# Altium footprint library SparkFun-IC-Special-Function.PCBLIB: 35 footprints (part 2 of 3)
Each footprint in its own frame and in the unit in brackets; x right, y up, seen from the top. Pads: shape width x height; smd on the part's side, far side on the other; paste and mask are expansions set on the pad; w line width, h text height; cw(c..) or ccw(c..) is an arc to the next point about the centre after c.
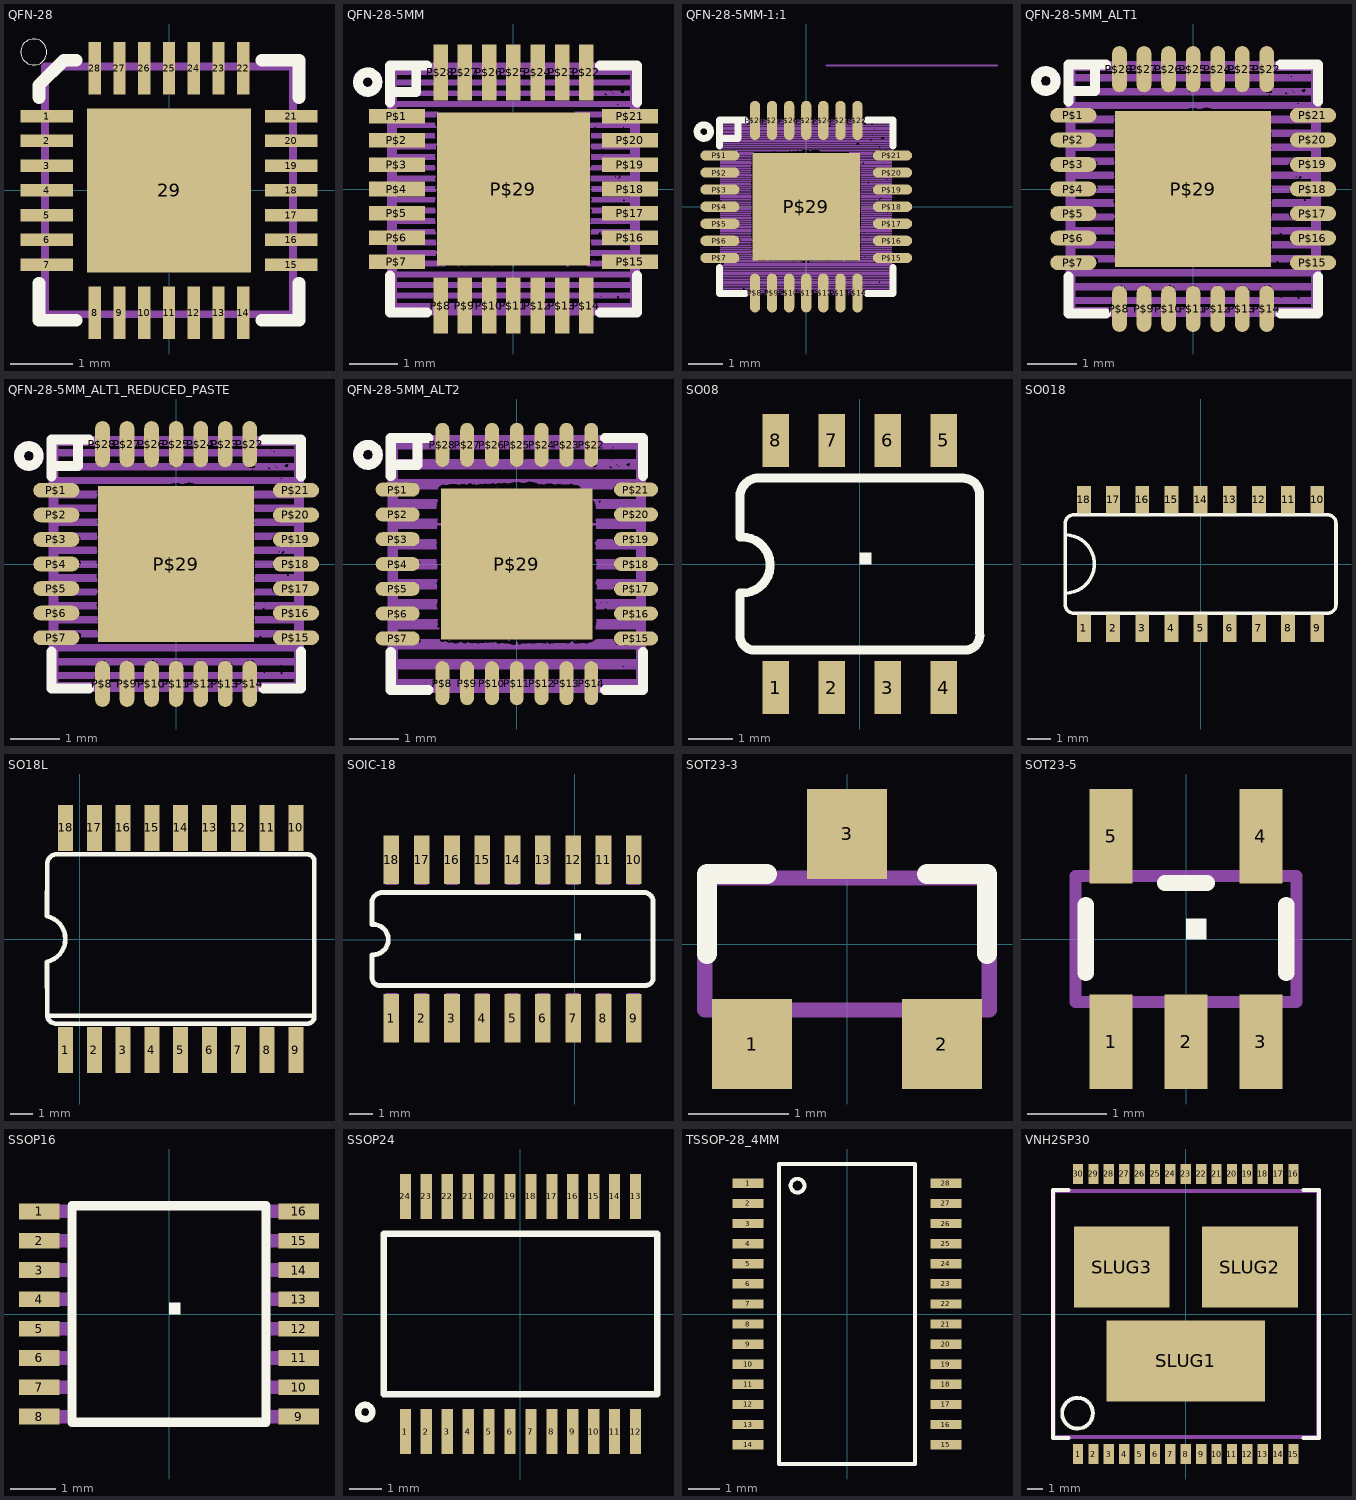
[diagram p1: the footprints below, top view; thin cyan lines are the x and y axes]

## QFN-28 [mil]
pads (29):
  rect 33.46x7.87 smd: 1(-77.76,47.24) 2(-77.76,31.5) 3(-77.76,15.75) 4(-77.76,0) 5(-77.76,-15.75) 6(-77.76,-31.5) 7(-77.76,-47.24) 15(77.76,-47.24) 16(77.76,-31.5) 17(77.76,-15.75) 18(77.76,0) 19(77.76,15.75) 20(77.76,31.5) 21(77.76,47.24)
  rect 7.87x33.46 smd: 8(-47.24,-77.76) 9(-31.5,-77.76) 10(-15.75,-77.76) 11(0,-77.76) 12(15.75,-77.76) 13(31.5,-77.76) 14(47.24,-77.76) 22(47.24,77.76) 23(31.5,77.76) 24(15.75,77.76) 25(0,77.76) 26(-15.75,77.76) 27(-31.5,77.76) 28(-47.24,77.76)
  rect 104.33x104.33 smd: 29(0,0)
Top Overlay:
  circle w0: c-86,88 r8.25
  lines w8: -82.68,-59.06 -82.68,-82.68 -59.06,-82.68 ; -82.68,59.06 -82.68,66.93 -66.93,82.68 -59.06,82.68 ; 59.06,-82.68 82.68,-82.68 82.68,-59.06 ; 59.06,82.68 82.68,82.68 82.68,59.06
Top Paste:
  rectangle: -39.12,-39.12 -13.04,-13.04
  region: 39.12,39.12 13.04,39.12 13.04,13.04 39.12,13.04
  rectangle: -39.12,13.04 -13.04,39.12
  region: 39.12,-13.04 13.04,-13.04 13.04,-39.12 39.12,-39.12
  rectangle: -78.74,43.31 -61.02,51.18
  rectangle: -78.74,27.56 -61.02,35.43
  rectangle: -78.74,11.81 -61.02,19.69
  rectangle: -78.74,-3.94 -61.02,3.94
  rectangle: -78.74,-19.69 -61.02,-11.81
  rectangle: -78.74,-35.43 -61.02,-27.56
  rectangle: -78.74,-51.18 -61.02,-43.31
  region: -43.31,-78.73 -43.31,-61.02 -51.19,-61.02 -51.19,-78.73
  region: -27.56,-78.73 -27.56,-61.02 -35.44,-61.02 -35.44,-78.73
  region: -11.81,-78.74 -11.81,-61.02 -19.69,-61.02 -19.69,-78.74
  region: 3.94,-78.74 3.94,-61.02 -3.94,-61.02 -3.94,-78.74
  region: 19.69,-78.74 19.69,-61.02 11.81,-61.02 11.81,-78.74
  region: 35.44,-78.73 35.44,-61.02 27.56,-61.02 27.56,-78.73
  region: 51.19,-78.73 51.19,-61.02 43.31,-61.02 43.31,-78.73
  region: 78.74,-43.31 61.02,-43.31 61.02,-51.18 78.74,-51.18
  region: 78.74,-27.56 61.02,-27.56 61.02,-35.43 78.74,-35.43
  region: 78.74,-11.81 61.02,-11.81 61.02,-19.69 78.74,-19.69
  region: 78.74,3.94 61.02,3.94 61.02,-3.94 78.74,-3.94
  region: 78.74,19.69 61.02,19.69 61.02,11.81 78.74,11.81
  region: 78.74,35.43 61.02,35.43 61.02,27.56 78.74,27.56
  region: 78.74,51.18 61.02,51.18 61.02,43.31 78.74,43.31
  region: 43.31,78.73 43.31,61.02 51.19,61.02 51.19,78.73
  region: 27.56,78.73 27.56,61.02 35.44,61.02 35.44,78.73
  region: 11.81,78.74 11.81,61.02 19.69,61.02 19.69,78.74
  region: -3.94,78.74 -3.94,61.02 3.94,61.02 3.94,78.74
  region: -19.69,78.74 -19.69,61.02 -11.81,61.02 -11.81,78.74
  region: -35.44,78.73 -35.44,61.02 -27.56,61.02 -27.56,78.73
  region: -51.19,78.73 -51.19,61.02 -43.31,61.02 -43.31,78.73
Mechanical 16:
  rectangle: -2.99,-78.74 2.99,-62.99
  rectangle: 12.76,-78.74 18.74,-62.99
  rectangle: 28.5,-78.74 34.49,-62.99
  rectangle: 44.25,-78.74 50.24,-62.99
  rectangle: -18.74,-78.74 -12.76,-62.99
  rectangle: -34.49,-78.74 -28.5,-62.99
  rectangle: -50.24,-78.74 -44.25,-62.99
  region: 78.74,-50.24 78.74,-44.25 62.99,-44.25 62.99,-50.24
  region: 78.74,-34.49 78.74,-28.5 62.99,-28.5 62.99,-34.49
  region: 78.74,-18.74 78.74,-12.75 62.99,-12.75 62.99,-18.74
  region: 78.74,-2.99 78.74,2.99 63,2.99 63,-2.99
  region: 78.74,12.75 78.74,18.74 62.99,18.74 62.99,12.75
  region: 78.74,28.5 78.74,34.49 62.99,34.49 62.99,28.5
  region: 78.74,44.25 78.74,50.24 62.99,50.24 62.99,44.25
  region: 50.24,78.74 44.25,78.74 44.25,62.99 50.24,62.99
  region: 34.49,78.74 28.5,78.74 28.5,62.99 34.49,62.99
  region: 18.74,78.74 12.76,78.74 12.76,62.99 18.74,62.99
  region: 2.99,78.74 -2.99,78.74 -2.99,62.99 2.99,62.99
  region: -12.76,78.74 -18.74,78.74 -18.74,62.99 -12.76,62.99
  region: -28.5,78.74 -34.49,78.74 -34.49,62.99 -28.5,62.99
  region: -44.25,78.74 -50.24,78.74 -50.24,62.99 -44.25,62.99
  region: -78.74,50.24 -78.74,44.25 -62.99,44.25 -62.99,50.24
  region: -78.74,34.49 -78.74,28.5 -62.99,28.5 -62.99,34.49
  region: -78.74,18.74 -78.74,12.75 -62.99,12.75 -62.99,18.74
  region: -78.74,2.99 -78.74,-2.99 -63,-2.99 -63,2.99
  region: -78.74,-12.75 -78.74,-18.74 -62.99,-18.74 -62.99,-12.75
  region: -78.74,-28.5 -78.74,-34.49 -62.99,-34.49 -62.99,-28.5
  region: -78.74,-44.25 -78.74,-50.24 -62.99,-50.24 -62.99,-44.25
  lines w5: -78.74,-78.74 -78.74,78.74 78.74,78.74 78.74,-78.74 -78.74,-78.74

## QFN-28-5MM [mm]
pads (29):
  rect 1.15x0.3 smd: P$1(-2.4,1.5) P$2(-2.4,1) P$3(-2.4,0.5) P$4(-2.4,0) P$5(-2.4,-0.5) P$6(-2.4,-1) P$7(-2.4,-1.5) P$15(2.4,-1.5) P$16(2.4,-1) P$17(2.4,-0.5) P$18(2.4,0) P$19(2.4,0.5) P$20(2.4,1) P$21(2.4,1.5)
  rect 0.3x1.15 smd: P$8(-1.5,-2.4) P$9(-1,-2.4) P$10(-0.5,-2.4) P$11(0,-2.4) P$12(0.5,-2.4) P$13(1,-2.4) P$14(1.5,-2.4) P$22(1.5,2.4) P$23(1,2.4) P$24(0.5,2.4) P$25(0,2.4) P$26(-0.5,2.4) P$27(-1,2.4) P$28(-1.5,2.4)
  rect 3.15x3.15 smd: P$29(0,0)
Top Overlay:
  circle w0.203: c-3,2.2 r0.2
  lines w0.203: -2.54,-1.778 -2.54,-2.54 -1.778,-2.54 ; -2.54,1.778 -2.54,2.54 -1.778,2.54 ; -2.5,2 -2,2 -2,2.5 ; 1.778,-2.54 2.54,-2.54 2.54,-1.778 ; 1.778,2.54 2.54,2.54 ; 2.54,1.778 2.54,2.5
Top Paste:
  rectangle: -1.016,0.254 -0.254,1.016
  rectangle: 0.254,0.254 1.016,1.016
  rectangle: -1.016,-1.016 -0.254,-0.254
  rectangle: 0.254,-1.016 1.016,-0.254
Mechanical 16:
  circle w0.203: c-3,2.2 r0.2
  lines w0.203: -2.5,2 -2.5,2.5 -2,2.5 ; -2.5,2 -2.5,-2.5 2.5,-2.5 2.5,2.5 -2,2.5 ; -2.5,2 -2,2 -2,2.5
Mech84:
  drawing of 2255 lines, arcs and shapes, not listed

## QFN-28-5MM-1:1 [mm]
pads (29):
  rrect100% 1.15x0.3 smd: P$1(-2.527,1.5) P$2(-2.527,1) P$3(-2.527,0.5) P$4(-2.527,0) P$5(-2.527,-0.5) P$6(-2.527,-1) P$7(-2.527,-1.5) P$15(2.527,-1.5) P$16(2.527,-1) P$17(2.527,-0.5) P$18(2.527,0) P$19(2.527,0.5) P$20(2.527,1) P$21(2.527,1.5)
  rrect100% 0.3x1.15 smd: P$8(-1.5,-2.527) P$9(-1,-2.527) P$10(-0.5,-2.527) P$11(0,-2.527) P$12(0.5,-2.527) P$13(1,-2.527) P$14(1.5,-2.527) P$22(1.5,2.527) P$23(1,2.527) P$24(0.5,2.527) P$25(0,2.527) P$26(-0.5,2.527) P$27(-1,2.527) P$28(-1.5,2.527)
  rect 3.15x3.15 smd: P$29(0,0)
Top Overlay:
  circle w0.203: c-3,2.2 r0.2
  lines w0.203: -2.54,-1.778 -2.54,-2.54 -1.778,-2.54 ; -2.54,1.778 -2.54,2.54 -1.778,2.54 ; -2.5,2 -2,2 -2,2.5 ; 1.778,-2.54 2.54,-2.54 2.54,-1.778 ; 1.778,2.54 2.54,2.54 ; 2.54,1.778 2.54,2.5
Top Paste:
  rectangle: -1.016,0.254 -0.254,1.016
  rectangle: 0.254,0.254 1.016,1.016
  rectangle: -1.016,-1.016 -0.254,-0.254
  rectangle: 0.254,-1.016 1.016,-0.254
Mechanical 14:
  lines w0.051: 0.584,4.139 5.588,4.139
Mech84:
  drawing of 3628 lines, arcs and shapes, not listed

## QFN-28-5MM_ALT1 [mil]
pads (29):
  rrect100% 37x11.81 smd: P$1(-96.06,59.06) P$2(-96.06,39.37) P$3(-96.06,19.69) P$4(-96.06,0) P$5(-96.06,-19.69) P$6(-96.06,-39.37) P$7(-96.06,-59.06) P$15(96.06,-59.06) P$16(96.06,-39.37) P$17(96.06,-19.69) P$18(96.06,0) P$19(96.06,19.69) P$20(96.06,39.37) P$21(96.06,59.06)
  rrect100% 11.81x37 smd: P$8(-59.06,-96.06) P$9(-39.37,-96.06) P$10(-19.69,-96.06) P$11(0,-96.06) P$12(19.69,-96.06) P$13(39.37,-96.06) P$14(59.06,-96.06) P$22(59.06,96.06) P$23(39.37,96.06) P$24(19.69,96.06) P$25(0,96.06) P$26(-19.69,96.06) P$27(-39.37,96.06) P$28(-59.06,96.06)
  rect 125x125 smd: P$29(0,0)
Top Overlay:
  circle w8: c-118.11,86.61 r7.87
  lines w8: -100,-70 -100,-100 -70,-100 ; -100,70 -100,100 -70,100 ; -98.43,78.74 -78.74,78.74 -78.74,98.43 ; 70,-100 100,-100 100,-70 ; 70,100 100,100 ; 100,70 100,98.43
Top Paste:
  region: 13.5,-13.5 13.5,13.5 -13.5,13.5 -13.5,-13.5
Mechanical 14:
  lines w1.97: -101.22,31.58 95.63,31.58
Mechanical 16:
  circle w8: c-118.11,86.61 r7.87
  lines w8: -98.43,78.74 -98.43,98.43 -78.74,98.43 ; -98.43,78.74 -98.43,-98.43 98.43,-98.43 98.43,98.43 -78.74,98.43 ; -98.43,78.74 -78.74,78.74 -78.74,98.43
Mech84:
  drawing of 2254 lines, arcs and shapes, not listed

## QFN-28-5MM_ALT1_REDUCED_PASTE [mil]
pads (29):
  rrect100% 37x11.81 smd: P$1(-96.06,59.06) P$2(-96.06,39.37) P$3(-96.06,19.69) P$4(-96.06,0) P$5(-96.06,-19.69) P$6(-96.06,-39.37) P$7(-96.06,-59.06) P$15(96.06,-59.06) P$16(96.06,-39.37) P$17(96.06,-19.69) P$18(96.06,0) P$19(96.06,19.69) P$20(96.06,39.37) P$21(96.06,59.06)
  rrect100% 11.81x37 smd: P$8(-59.06,-96.06) P$9(-39.37,-96.06) P$10(-19.69,-96.06) P$11(0,-96.06) P$12(19.69,-96.06) P$13(39.37,-96.06) P$14(59.06,-96.06) P$22(59.06,96.06) P$23(39.37,96.06) P$24(19.69,96.06) P$25(0,96.06) P$26(-19.69,96.06) P$27(-39.37,96.06) P$28(-59.06,96.06)
  rect 125x125 smd: P$29(0,0)
Top Overlay:
  circle w8: c-118.11,86.61 r7.87
  lines w8: -100,-70 -100,-100 -70,-100 ; -100,70 -100,100 -70,100 ; -98.43,78.74 -78.74,78.74 -78.74,98.43 ; 70,-100 100,-100 100,-70 ; 70,100 100,100 ; 100,70 100,98.43
Top Paste:
  rectangle: -32.7,-33.4 -11.4,-12.5
  rectangle: 11.6,-33.3 32.9,-12.4
  rectangle: -33.1,13.1 -11.8,34
  rectangle: 12.8,14 34.1,34.9
  lines w10: -105.9,19.8 -83.7,19.8 ; -105.8,-59 -83.6,-59 ; -105.8,-19.5 -83.6,-19.5 ; -105.8,0.1 -83.6,0.1 ; -105.7,39.5 -83.5,39.5 ; -105.6,-39.2 -83.4,-39.2 ; -105.6,59.3 -83.4,59.3 ; -59.2,-105.2 -59.2,-83 ; -59.2,83.4 -59.2,105.6 ; -39.4,-105.4 -39.4,-83.2 ; -39.4,83.2 -39.4,105.4 ; -19.7,-105.2 -19.7,-83 ; -19.7,83.4 -19.7,105.6 ; -0.1,-105.2 -0.1,-83 ; -0.1,83.4 -0.1,105.6 ; 19.6,-105.1 19.6,-82.9 ; 19.6,83.5 19.6,105.7 ; 39.3,-105.3 39.3,-83.1 ; 39.3,83.3 39.3,105.5 ; 59.1,-105.4 59.1,-83.2 ; 59.1,83.2 59.1,105.4 ; 83,19.7 105.2,19.7 ; 83.1,-59.1 105.3,-59.1 ; 83.1,-19.6 105.3,-19.6 ; 83.1,0 105.3,0 ; 83.2,39.4 105.4,39.4 ; 83.3,-39.3 105.5,-39.3 ; 83.3,59.2 105.5,59.2
Mechanical 14:
  lines w1.97: -101.22,31.58 95.63,31.58
Mechanical 16:
  circle w8: c-118.11,86.61 r7.87
  lines w8: -98.43,78.74 -98.43,98.43 -78.74,98.43 ; -98.43,78.74 -98.43,-98.43 98.43,-98.43 98.43,98.43 -78.74,98.43 ; -98.43,78.74 -78.74,78.74 -78.74,98.43
Mech84:
  drawing of 2254 lines, arcs and shapes, not listed

## QFN-28-5MM_ALT2 [mil]
pads (29):
  rrect100% 35x11.02 smd: P$1(-94.52,59.06) P$2(-94.52,39.37) P$3(-94.52,19.69) P$4(-94.52,0) P$5(-94.52,-19.69) P$6(-94.52,-39.37) P$7(-94.52,-59.06) P$15(94.52,-59.06) P$16(94.52,-39.37) P$17(94.52,-19.69) P$18(94.52,0) P$19(94.52,19.69) P$20(94.52,39.37) P$21(94.52,59.06)
  rrect100% 11.02x35 smd: P$8(-59.06,-94.52) P$9(-39.37,-94.52) P$10(-19.69,-94.52) P$11(0,-94.52) P$12(19.69,-94.52) P$13(39.37,-94.52) P$14(59.06,-94.52) P$22(59.06,94.52) P$23(39.37,94.52) P$24(19.69,94.52) P$25(0,94.52) P$26(-19.69,94.52) P$27(-39.37,94.52) P$28(-59.06,94.52)
  rect 120x120 smd: P$29(0,0)
Top Overlay:
  circle w8: c-118.11,86.61 r7.87
  lines w8: -100,-70 -100,-100 -70,-100 ; -100,70 -100,100 -70,100 ; -98.43,78.74 -78.74,78.74 -78.74,98.43 ; 70,-100 100,-100 100,-70 ; 70,100 100,100 ; 100,70 100,98.43
Top Paste:
  rectangle: -55,5 -5,55
  rectangle: 5,5 55,55
  rectangle: -55,-55 -5,-5
  rectangle: 5,-55 55,-5
Mechanical 14:
  lines w1.97: -98.72,31.58 98.13,31.58
Mechanical 16:
  circle w8: c-118.11,86.61 r7.87
  lines w8: -98.43,78.74 -98.43,98.43 -78.74,98.43 ; -98.43,78.74 -98.43,-98.43 98.43,-98.43 98.43,98.43 -78.74,98.43 ; -98.43,78.74 -78.74,78.74 -78.74,98.43
Mech84:
  drawing of 2255 lines, arcs and shapes, not listed

## SO08 [mil]
pads (8):
  rect 23.62x47.24 smd: 1(-75,-110.24) 2(-25,-110.24) 3(25,-110.24) 4(75,-110.24) 5(75,110.24) 6(25,110.24) 7(-25,110.24) 8(-75,110.24)
Top Overlay:
  region: 0,0 10,0 10,10 0,10
  lines w8: -107,-26 -107,-65.56 ccw(c-93.97,-63.6) -92,-76.63 95.94,-76.63 ccw(c93.97,-63.6) 107,-61.63 107,61.63 ccw(c92,61.63) 92,76.63 -92,76.63 ccw(c-90.03,59.66) -107,57.69 ; -107,24 -107,57.19 ; -105,-26 ccw(c-105,-1) -105,24
Mechanical 16:
  rectangle: -85,-130 -65,-89.5
  rectangle: -35,-130 -15,-89.5
  rectangle: 15,-130 35,-89.5
  rectangle: 65,-130 85,-89.5
  rectangle: -35,90 -15,130
  rectangle: 15,90 35,130
  rectangle: 65,90 85,130
  rectangle: -85,90 -65,130

## SO018 [mil]
pads (18):
  rect 23.62x47.24 smd: 1(-200,-110.24) 2(-150,-110.24) 3(-100,-110.24) 4(-50,-110.24) 5(0,-110.24) 6(50,-110.24) 7(100,-110.24) 8(150,-110.24) 9(200,-110.24) 10(200,110.24) 11(150,110.24) 12(100,110.24) 13(50,110.24) 14(0,110.24) 15(-50,110.24) 16(-100,110.24) 17(-150,110.24) 18(-200,110.24)
Top Overlay:
  rectangle: -210,-89.5 -190,-84.5
  rectangle: -160,-89.5 -140,-84.5
  rectangle: -110,-89.5 -90,-84.5
  rectangle: -60,-89.5 -40,-84.5
  rectangle: -10,-89.5 10,-84.5
  rectangle: 40,-89.5 60,-84.5
  rectangle: 90,-89.5 110,-84.5
  rectangle: 140,-89.5 160,-84.5
  rectangle: -210,84.5 -190,89.5
  rectangle: -160,84.5 -140,89.5
  rectangle: -110,84.5 -90,89.5
  rectangle: -60,84.5 -40,89.5
  rectangle: -10,84.5 10,89.5
  rectangle: 40,84.5 60,89.5
  rectangle: 90,84.5 110,89.5
  rectangle: 140,84.5 160,89.5
  lines w6: -232,-50 ccw(c-232,0) -232,50 ; -232,-69.5 ccw(c-217,-69.5) -217,-84.5 217,-84.5 ccw(c217,-69.5) 232,-69.5 232,69.5 ccw(c217,69.5) 217,84.5 -217,84.5 ccw(c-217,69.5) -232,69.5 -232,-69.5

## SO18L [mil]
pads (18):
  rect 26x80 smd: 1(-25,-193) 2(25,-193) 3(75,-193) 4(125,-193) 5(175,-193) 6(225,-193) 7(275,-193) 8(325,-193) 9(375,-193) 10(375,193) 11(325,193) 12(275,193) 13(225,193) 14(175,193) 15(125,193) 16(75,193) 17(25,193) 18(-25,193)
Top Overlay:
  lines w8: -52.24,-133 404,-133 ; -57.09,-39.37 -57,-132 ccw(c-41,-131) -40,-147 394,-147 ccw(c394.51,-134.51) 407,-135 407,135 ccw(c394.51,134.51) 394,147 -40,147 ccw(c-40,130) -57,130 -57.09,39.37 cw(c-65.48,0) -57.09,-39.37

## SOIC-18 [mil]
pads (18):
  rect 26x80 smd: 1(-302.56,-129.32) 2(-252.56,-129.32) 3(-202.56,-129.32) 4(-152.56,-129.32) 5(-102.56,-129.32) 6(-52.56,-129.32) 7(-2.56,-129.32) 8(47.44,-129.32) 9(97.44,-129.32) 10(97.44,131.68) 11(47.44,131.68) 12(-2.56,131.68) 13(-52.56,131.68) 14(-102.56,131.68) 15(-152.56,131.68) 16(-202.56,131.68) 17(-252.56,131.68) 18(-302.56,131.68)
Top Overlay:
  region: 0,0 10,0 10,10 0,10
  lines w8: -334.56,-24.82 -334.56,-64.38 ccw(c-321.54,-62.42) -319.56,-75.44 118.38,-75.44 ccw(c116.41,-62.41) 129.44,-60.44 129.44,62.81 ccw(c114.44,62.81) 114.44,77.81 -319.56,77.81 ccw(c-317.59,60.84) -334.56,58.87 ; -334.56,25.18 -334.56,58.37 ; -332.56,-24.82 ccw(c-332.56,0.18) -332.56,25.18
Mechanical 16:
  rectangle: -312.56,-148.82 -292.56,-88.32
  rectangle: -262.56,-146.32 -242.56,-88.32
  rectangle: -212.56,-146.32 -192.56,-88.32
  rectangle: -162.56,-146.32 -142.56,-88.32
  rectangle: -112.56,-146.32 -92.56,-88.32
  rectangle: -62.56,-146.32 -42.56,-88.32
  rectangle: -12.56,-146.32 7.44,-88.32
  rectangle: -312.56,90.68 -292.56,148.68
  rectangle: -262.56,90.68 -242.56,148.68
  rectangle: -212.56,90.68 -192.56,148.68
  rectangle: -162.56,90.68 -142.56,148.68
  rectangle: -112.56,90.68 -92.56,148.68
  rectangle: -62.56,90.68 -42.56,148.68
  rectangle: -12.56,90.68 7.44,148.68
  rectangle: 37.44,-148.82 57.44,-88.32
  rectangle: 87.44,-146.32 107.44,-88.32
  rectangle: 37.44,90.68 57.44,148.68
  rectangle: 87.44,90.68 107.44,148.68

## SOT23-3 [mil]
pads (3):
  rect 31.5x35.43 smd: 1(-37.4,-39.37) 2(37.4,-39.37) 3(0,43.31)
Top Overlay:
  lines w8: -55.12,-3.94 -55.12,27.56 -31.5,27.56 ; 31.5,27.56 55.12,27.56 55.12,-3.94
Mechanical 16:
  lines w6: -56,-26 56,-26 56,26 -56,26 -56,-26

## SOT23-5 [mil]
pads (5):
  rect 21.65x47.24 smd: 1(-37.4,-51.19) 2(0,-51.19) 3(37.4,-51.19) 4(37.4,51.19) 5(-37.4,51.19)
Top Overlay:
  region: 0,0 10,0 10,10 0,10
  lines w8: -50,-16.91 -50,16.91 ; -10.57,27.91 10.57,27.91 ; 50,-16.91 50,16.91
Mechanical 16:
  rectangle: -47.24,-59.06 -27.56,-33.46
  rectangle: -9.84,-59.06 9.84,-33.46
  rectangle: 27.56,-59.06 47.24,-33.46
  rectangle: 27.56,33.46 47.24,59.06
  rectangle: -47.24,33.46 -27.56,59.06
  lines w6: -55.12,-31.5 55.12,-31.5 55.12,31.5 -55.12,31.5 -55.12,-31.5

## SSOP16 [mm]
pads (16):
  rect 0.9x0.35 smd: 1(-2.875,2.275) 2(-2.875,1.625) 3(-2.875,0.975) 4(-2.875,0.325) 5(-2.875,-0.325) 6(-2.875,-0.975) 7(-2.875,-1.625) 8(-2.875,-2.275) 9(2.875,-2.275) 10(2.875,-1.625) 11(2.875,-0.975) 12(2.875,-0.325) 13(2.875,0.325) 14(2.875,0.975) 15(2.875,1.625) 16(2.875,2.275)
Top Overlay:
  region: 0,0 0.254,0 0.254,0.254 0,0.254
  lines w0.203: -2.148,-2.399 2.148,-2.399 2.148,2.399 -2.148,2.399 -2.148,-2.399
Mechanical 16:
  rectangle: -3.2,2.125 -2.25,2.425
  rectangle: -3.2,1.475 -2.25,1.775
  rectangle: -3.2,0.825 -2.25,1.125
  rectangle: -3.2,0.175 -2.25,0.475
  rectangle: -3.2,-0.475 -2.25,-0.175
  rectangle: -3.2,-1.125 -2.25,-0.825
  rectangle: -3.2,-1.775 -2.25,-1.475
  rectangle: -3.2,-2.425 -2.25,-2.125
  region: 3.2,-2.125 2.25,-2.125 2.25,-2.425 3.2,-2.425
  region: 3.2,-1.475 2.25,-1.475 2.25,-1.775 3.2,-1.775
  region: 3.2,-0.825 2.25,-0.825 2.25,-1.125 3.2,-1.125
  region: 3.2,-0.175 2.25,-0.175 2.25,-0.475 3.2,-0.475
  region: 3.2,0.475 2.25,0.475 2.25,0.175 3.2,0.175
  region: 3.2,1.125 2.25,1.125 2.25,0.825 3.2,0.825
  region: 3.2,1.775 2.25,1.775 2.25,1.475 3.2,1.475
  region: 3.2,2.425 2.25,2.425 2.25,2.125 3.2,2.125

## SSOP24 [mil]
pads (24):
  rect 13.7x55 smd: 1(-140.75,-143.94) 2(-115.16,-143.94) 3(-89.57,-143.94) 4(-63.98,-143.94) 5(-38.39,-143.94) 6(-12.8,-143.94) 7(12.8,-143.94) 8(38.39,-143.94) 9(63.98,-143.94) 10(89.57,-143.94) 11(115.16,-143.94) 12(140.75,-143.94) 13(140.75,143.94) 14(115.16,143.94) 15(89.57,143.94) 16(63.98,143.94) 17(38.39,143.94) 18(12.8,143.94) 19(-12.8,143.94) 20(-38.39,143.94) 21(-63.98,143.94) 22(-89.57,143.94) 23(-115.16,143.94) 24(-140.75,143.94)
Top Overlay:
  circle w8: c-190,-120 r8.78
  lines w8: -167.32,-98.43 167.32,-98.43 167.32,98.43 -167.32,98.43 -167.32,-98.43

## TSSOP-28_4MM [mm]
pads (28):
  rect 1x0.3 smd: 1(-3.2,4.225) 2(-3.2,3.575) 3(-3.2,2.925) 4(-3.2,2.275) 5(-3.2,1.625) 6(-3.2,0.975) 7(-3.2,0.325) 8(-3.2,-0.325) 9(-3.2,-0.975) 10(-3.2,-1.625) 11(-3.2,-2.275) 12(-3.2,-2.925) 13(-3.2,-3.575) 14(-3.2,-4.225) 15(3.2,-4.225) 16(3.2,-3.575) 17(3.2,-2.925) 18(3.2,-2.275) 19(3.2,-1.625) 20(3.2,-0.975) 21(3.2,-0.325) 22(3.2,0.325) 23(3.2,0.975) 24(3.2,1.625) 25(3.2,2.275) 26(3.2,2.925) 27(3.2,3.575) 28(3.2,4.225)
Top Overlay:
  circle w0.127: c-1.6,4.15 r0.224
  lines w0.127: -2.2,-4.85 2.2,-4.85 2.2,4.85 -2.2,4.85 -2.2,-4.85

## VNH2SP30 [mm]
pads (33):
  rect 0.67x1.3 smd: 1(-7,-9.1) 2(-6,-9.1) 3(-5,-9.1) 4(-4,-9.1) 5(-3,-9.1) 6(-2,-9.1) 7(-1,-9.1) 8(0,-9.1) 9(1,-9.1) 10(2,-9.1) 11(3,-9.1) 12(4,-9.1) 13(5,-9.1) 14(6,-9.1) 15(7,-9.1) 16(7,9.1) 17(6,9.1) 18(5,9.1) 19(4,9.1) 20(3,9.1) 21(2,9.1) 22(1,9.1) 23(0,9.1) 24(-1,9.1) 25(-2,9.1) 26(-3,9.1) 27(-4,9.1) 28(-5,9.1) 29(-6,9.1) 30(-7,9.1)
  rect 10.3x5.25 smd: SLUG1(0,-3.05)
  rect 6.23x5.25 smd: SLUG2(4.165,3.05) SLUG3(-4.165,3.05)
Top Overlay:
  circle w0.254: c-7.035,-6.45 r1
  lines w0.254: -7.635,-8.05 -8.635,-8.05 -8.635,8.05 -7.635,8.05 ; 7.665,-8.05 8.665,-8.05 8.665,8.05 7.665,8.05
Mechanical 16:
  lines w0.254: -8.6,-8 8.6,-8 8.6,8 -8.6,8 -8.6,-8